# Altium integrated library HLib_device_library.IntLib: 26 symbols
Pins are listed as number, name and electrical type; pins without a type are passive.

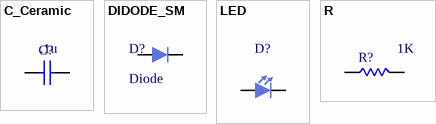
[diagram p0: symbols C_Ceramic to R]

## C_Ceramic
designator C?  value .1u  (hidden comment: C_Ceramic)
Non-polarity ceramic capacitor; Published: 8-Jun-2000; LatestRevisionDate: 17-Jul-2002; LatestRevisionNote: Re-released for DXP Platform.; PackageReference: RAD-0.3; Publisher: Altium Limited; PackageDescription: Radial Cap, Thru-Hole; 2 Leads; 0.3 in Pin Spacing
footprint SM_0805_LD (General Surface-mount RLC, low density)
footprint SM_0805_C_CERAMIC (General Surface-mount cap, low density)
pins: 1, 2

## DIDODE_SM
designator D?, comment Diode
Diode Polarized SM
footprint SM_0805_DIODE (General polarized surface-mount diode, low density)
pins: 1 A, 2 K

## LED
designator D?  (value not drawn)
Published: 8-Jun-2000; LatestRevisionDate: 08-Jul-2005; LatestRevisionNote: Mech Layer 1 removed.; PackageReference: LED-1; Publisher: Altium Limited; PackageDescription: LED; 2 Leads
footprint SM_0805_LED (General polarized surface-mount Led, low density)
pins: 1 A, 2 K

## R
designator R?  value 1K  (hidden comment: R)
Resistor; Published: 8-Jun-2000; LatestRevisionDate: 29-May-2009; LatestRevisionNote: IPC-7351 Footprint Added.; PackageReference: J1-0603; Publisher: Altium Limited; PackageDescription: Chip Resistor
footprint SM_0805_R (General Surface-mount resistor, low density)
pins: 1, 2


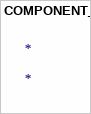
[diagram p1: symbol COMPONENT_1]

## COMPONENT_1
designator *


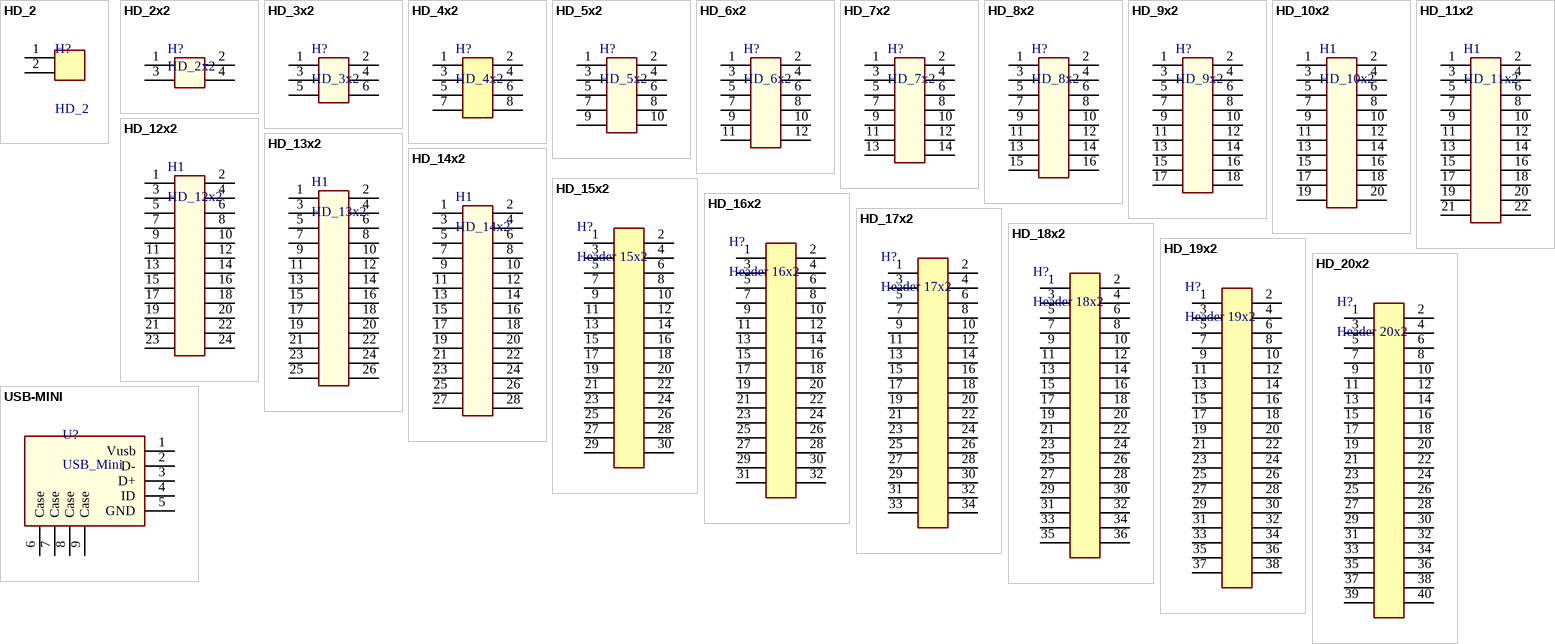
[diagram p2: symbols HD_2 to USB-MINI]

## HD_2
designator H?
Header, 2 pins, single row; LatestRevisionDate: 17-Jul-2002; LatestRevisionNote: Re-released for DXP Platform.; Publisher: Altium Limited
footprint HD_FEMALE_2_100mil_straight
footprint HD_MALE_2_100mil_straight
pins: 1, 2

## HD_2x2
designator H?
Header, 2-pins/row, double row,
footprint HD_FEMALE_2x2_100mil_straight
footprint HD_male_2x2_100mil_straight
pins: 1, 2, 3, 4

## HD_3x2
designator H?
Header, 3-pins/row, double row,
footprint HD_FEMALE_3x2_100mil_straight
footprint HD_male_3x2_100mil_straight
pins: 1, 2, 3, 4, 5, 6

## HD_4x2
designator H?
Header, 4-pins/row, double row,
footprint HD_FEMALE_4x2_100mil_straight
footprint HD_male_4x2_100mil_straight
pins: 1, 2, 3, 4, 5, 6, 7, 8

## HD_5x2
designator H?
Header, 5-pins/row, double row,
footprint HD_FEMALE_5x2_100mil_straight
footprint HD_male_5x2_100mil_straight
pins: 1, 2, 3, 4, 5, 6, 7, 8, 9, 10

## HD_6x2
designator H?
Header, 6-pins/row, double row,
footprint HD_FEMALE_6x2_100mil_straight
footprint HD_male_6x2_100mil_straight
pins: 1, 2, 3, 4, 5, 6, 7, 8, 9, 10, 11, 12

## HD_7x2
designator H?
Header, 7-pins/row, double row,
footprint HD_FEMALE_7x2_100mil_straight
footprint HD_male_7x2_100mil_straight
pins: 1, 2, 3, 4, 5, 6, 7, 8, 9, 10, 11, 12, 13, 14

## HD_8x2
designator H?
Header, 8-pins/row, double row,
footprint HD_FEMALE_8x2_100mil_straight - duplicate
footprint HD_male_8x2_100mil_straight
pins: 1, 2, 3, 4, 5, 6, 7, 8, 9, 10, 11, 12, 13, 14, 15, 16

## HD_9x2
designator H?
Header, 9-pins/row, double row,
footprint HD_FEMALE_9x2_100mil_straight - duplicate
footprint HD_male_9x2_100mil_straight
pins: 1, 2, 3, 4, 5, 6, 7, 8, 9, 10, 11, 12, 13, 14, 15, 16, 17, 18

## HD_10x2
designator H1
Header, 10-pins/row, double row,
footprint HD_FEMALE_10X2_100mil_straight
footprint HD_MALE_10X2_100MIL_STRAIGHT
pins: 1, 2, 3, 4, 5, 6, 7, 8, 9, 10, 11, 12, 13, 14, 15, 16, 17, 18, 19, 20

## HD_11x2
designator H1
Header, 11-pins/row, double row,
footprint HD_FEMALE_11X2_100mil_straight
footprint HD_MALE_11X2_100MIL_STRAIGHT - duplicate
pins: 1, 2, 3, 4, 5, 6, 7, 8, 9, 10, 11, 12, 13, 14, 15, 16, 17, 18, 19, 20, 21, 22

## HD_12x2
designator H1
Header, 12-pins/row, double row,
footprint HD_FEMALE_12X2_100mil_straight
footprint HD_MALE_12X2_100MIL_STRAIGHT
pins: 1, 2, 3, 4, 5, 6, 7, 8, 9, 10, 11, 12, 13, 14, 15, 16, 17, 18, 19, 20, 21, 22, 23, 24

## HD_13x2
designator H1
Header, 13-pins/row, double row,
footprint HD_FEMALE_13X2_100mil_straight
footprint HD_MALE_13X2_100MIL_STRAIGHT
pins: 1, 2, 3, 4, 5, 6, 7, 8, 9, 10, 11, 12, 13, 14, 15, 16, 17, 18, 19, 20, 21, 22, 23, 24, 25, 26

## HD_14x2
designator H1
Header, 14-pins/row, double row,
footprint HD_FEMALE_14X2_100mil_straight
footprint HD_MALE_14X2_100MIL_STRAIGHT
pins: 1, 2, 3, 4, 5, 6, 7, 8, 9, 10, 11, 12, 13, 14, 15, 16, 17, 18, 19, 20, 21, 22, 23, 24, 25, 26, 27, 28

## HD_15x2
designator H?, comment Header 15x2
Header, 15-pins/row, double row,
footprint HD_male_2x15
footprint HD_female_2x15
pins: 1, 2, 3, 4, 5, 6, 7, 8, 9, 10, 11, 12, 13, 14, 15, 16, 17, 18, 19, 20, 21, 22, 23, 24, 25, 26, 27, 28, 29, 30

## HD_16x2
designator H?, comment Header 16x2
Header, 16-pins/row, double row,
footprint HD_male_2x16
footprint HD_female_2x16
pins: 1, 2, 3, 4, 5, 6, 7, 8, 9, 10, 11, 12, 13, 14, 15, 16, 17, 18, 19, 20, 21, 22, 23, 24, 25, 26, 27, 28, 29, 30, 31, 32

## HD_17x2
designator H?, comment Header 17x2
Header, 17-pins/row, double row,
footprint HD_male_2x17
footprint HD_female_2x17
pins: 1, 2, 3, 4, 5, 6, 7, 8, 9, 10, 11, 12, 13, 14, 15, 16, 17, 18, 19, 20, 21, 22, 23, 24, 25, 26, 27, 28, 29, 30, 31, 32, 33, 34

## HD_18x2
designator H?, comment Header 18x2
Header, 18-pins/row, double row,
footprint HD_male_2x18
footprint HD_female_2x18
pins: 1, 2, 3, 4, 5, 6, 7, 8, 9, 10, 11, 12, 13, 14, 15, 16, 17, 18, 19, 20, 21, 22, 23, 24, 25, 26, 27, 28, 29, 30, 31, 32, 33, 34, 35, 36

## HD_19x2
designator H?, comment Header 19x2
Header, 14-pins/row, double row,
footprint HD_male_2x19
footprint HD_female_2x19
pins: 1, 2, 3, 4, 5, 6, 7, 8, 9, 10, 11, 12, 13, 14, 15, 16, 17, 18, 19, 20, 21, 22, 23, 24, 25, 26, 27, 28, 29, 30, 31, 32, 33, 34, 35, 36, 37, 38

## HD_20x2
designator H?, comment Header 20x2
Header, 20-pins/row, double row,
footprint HD_male_2x20
footprint HD_female_2x20
pins: 1, 2, 3, 4, 5, 6, 7, 8, 9, 10, 11, 12, 13, 14, 15, 16, 17, 18, 19, 20, 21, 22, 23, 24, 25, 26, 27, 28, 29, 30, 31, 32, 33, 34, 35, 36, 37, 38, 39, 40

## USB-MINI
designator U?, comment USB_Mini
USB mini connector
footprint USB MINI B
pins: 1 Vusb (power), 2 D-, 3 D+, 4 ID, 5 GND (power), 6 Case, 7 Case (power), 8 Case (power), 9 Case (power)